# Altium footprint library Control_Board_Model_C201.PcbLib: 94 footprints (part 4 of 6)
Each footprint in its own frame and in the unit in brackets; x right, y up, seen from the top. Pads: shape width x height; smd on the part's side, far side on the other; paste and mask are expansions set on the pad; w line width, h text height; cw(c..) or ccw(c..) is an arc to the next point about the centre after c.
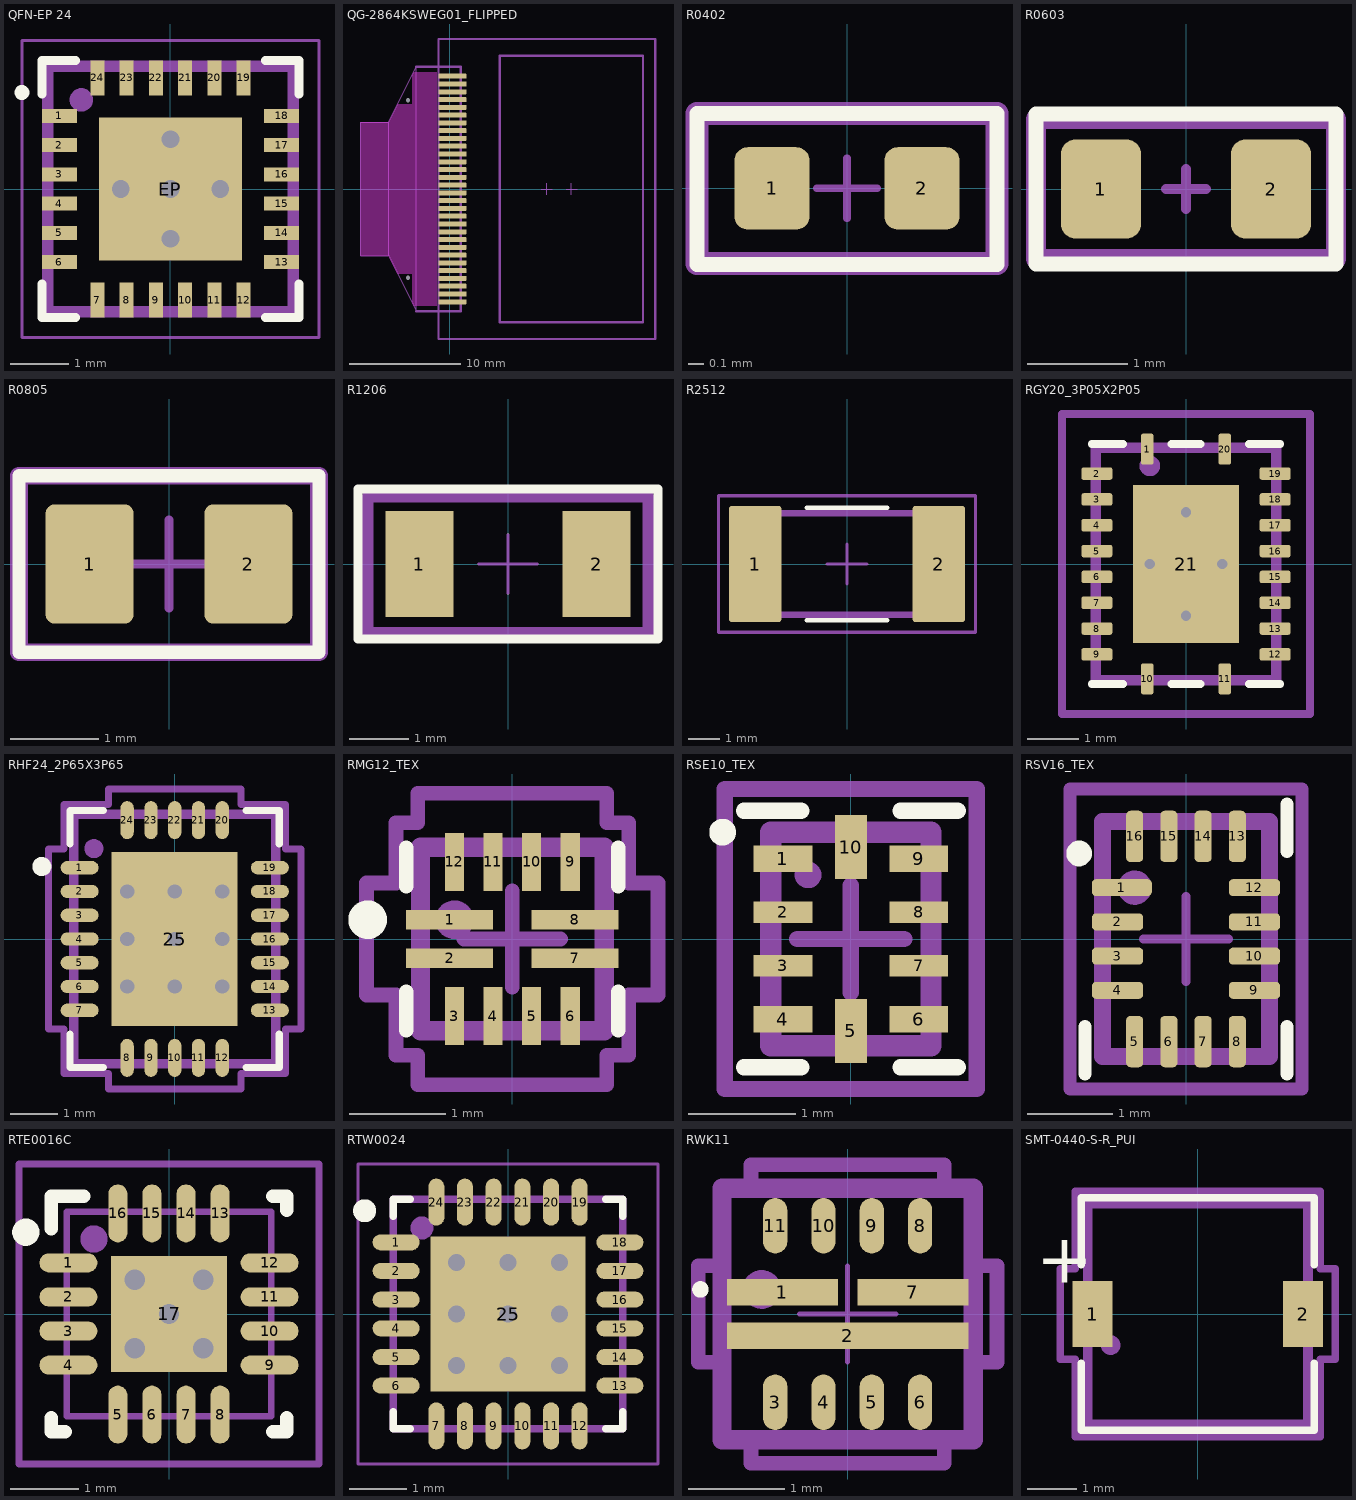
[diagram p3: the footprints below, top view; thin cyan lines are the x and y axes]

## QFN-EP 24 [mm]
height 0.8
pads (25):
  rect 0.6x0.24 smd: 1(-1.9,1.25) 2(-1.9,0.75) 3(-1.9,0.25) 4(-1.9,-0.25) 5(-1.9,-0.75) 6(-1.9,-1.25) 13(1.9,-1.25) 14(1.9,-0.75) 15(1.9,-0.25) 16(1.9,0.25) 17(1.9,0.75) 18(1.9,1.25)
  rect 0.24x0.6 smd: 7(-1.25,-1.9) 8(-0.75,-1.9) 9(-0.25,-1.9) 10(0.25,-1.9) 11(0.75,-1.9) 12(1.25,-1.9) 19(1.25,1.9) 20(0.75,1.9) 21(0.25,1.9) 22(-0.25,1.9) 23(-0.75,1.9) 24(-1.25,1.9)
  rect 2.45x2.45 smd paste-10: EP(0,0)
via 0,0 diameter 0.605 hole 0.3
via 0,0.85 diameter 0.605 hole 0.3
via 0,-0.85 diameter 0.605 hole 0.3
via -0.85,0 diameter 0.605 hole 0.3
via 0.85,0 diameter 0.605 hole 0.3
Top Overlay:
  circle w0.152: c-2.54,1.651 r0.051
  lines w0.152: -2.2,-1.625 -2.2,-2.2 -1.625,-2.2 ; -2.2,1.625 -2.2,2.2 -1.625,2.2 ; 1.625,-2.2 2.2,-2.2 2.2,-1.625 ; 1.625,2.2 2.2,2.2 2.2,1.625
Top Paste:
  rectangle: 0.1,0.1 1,1
  rectangle: -1,0.1 -0.1,1
  rectangle: -1,-1 -0.1,-0.1
  rectangle: 0.1,-1 1,-0.1
Mechanical 14:
  circle w0.2: c-1.524,1.524 r0.1
  lines w0.2: -2.1,-2.1 2.1,-2.1 2.1,2.1 -2.1,2.1 -2.1,-2.1
  text "'.Designator'" at -0.762,-0.254 h0.5
Mechanical 15:
  lines w0.05: -0.5,0 0.5,0 ; 0,-0.5 0,0.5 ; -2.54,-2.54 -2.54,2.54 2.54,2.54 2.54,-2.54 -2.54,-2.54
3D body "WQFN-24.STEP": height 0.8, standoff 0, extent -2.075,-2.075 2.075,2.075

## QG-2864KSWEG01_FLIPPED [mm] "Folding Type OLED Display Module"
pads (32):
  round 0.3 hole 0.4 unplated mask+0: 0(-3.75,-8) 0(-3.75,8)
  rrect20% 2.5x0.45 smd mask+0.05: 1(0.25,10.15) 2(0.25,9.45) 3(0.25,8.75) 4(0.25,8.05) 5(0.25,7.35) 6(0.25,6.65) 7(0.25,5.95) 8(0.25,5.25) 9(0.25,4.55) 10(0.25,3.85) 11(0.25,3.15) 12(0.25,2.45) 13(0.25,1.75) 14(0.25,1.05) 15(0.25,0.35) 16(0.25,-0.35) 17(0.25,-1.05) 18(0.25,-1.75) 19(0.25,-2.45) 20(0.25,-3.15) 21(0.25,-3.85) 22(0.25,-4.55) 23(0.25,-5.25) 24(0.25,-5.95) 25(0.25,-6.65) 26(0.25,-7.35) 27(0.25,-8.05) 28(0.25,-8.75) 29(0.25,-9.45) 30(0.25,-10.15)
Top Layer keep-out:
  region: -2,10.5 -1.168,10.5 -1.168,-10.5 -2,-10.5
  region: -8,6 -5.5,6 -4.675,7.62 -3.378,7.62 -3.378,10.211 -3.25,10.5 -2,10.5 -2,-10.5 -3.25,-10.5 -3.378,-10.216 -3.378,-7.62 -4.699,-7.62 -5.5,-6 -8,-6
Mechanical 14:
  lines w0.1: 8.25,0 9.25,0 ; 8.75,-0.5 8.75,0.5 ; 10.5,0 11.5,0 ; 10.95,-0.5 10.95,0.5 ; -5.5,-6 -8,-6 -8,6 -5.5,6 ; -5.5,-6 -3,-11 -3,11 -5.5,6 ; -5.5,-6 -5.5,6
  lines w0.2: -3,-11 1,-11 1,11 -3,11 ; -1,-13.5 -1,13.5 18.5,13.5 18.5,-13.5 -1,-13.5 ; 4.5,-12 17.4,-12 17.4,12 4.5,12 4.5,-12
  text "30" at 0.5,-10.7 h1.02
  text "1" at 0.5,10 h1.02
  text "'.Designator'" at 0.2,-0.8 h0.5
3D body: height 7.4, standoff 6, extent -1,-13.5 18.5,13.5
3D body: height 7.47, standoff 7.4, extent 4.5,-12 17.4,12

## R0402 [mm]
pads (2):
  rrect35% 0.5x0.55 smd: 1(-0.5,0) 2(0.5,0)
Top Overlay:
  lines w0.1: -1,-0.508 1,-0.508 1,0.5 -1,0.5 -1,-0.508
Mechanical 14:
  lines w0.152: -1,-0.5 -1,0.5 1,0.5 1,-0.5 -1,-0.5
  text ".Designator" at -0.8,-0.2 h0.5
Mechanical 15:
  lines w0.05: -1,-0.5 1,-0.5 1,0.5 -1,0.5 -1,-0.5
  lines w0.051: -0.2,0 0.2,0 ; 0,-0.2 0,0.2
3D body "RC0402N.step": height 0.71, standoff 0, extent -0.533,-0.254 0.533,0.254

## R0603 [mm]
pads (2):
  rrect35% 0.8x0.991 smd: 1(-0.85,0) 2(0.85,0)
Top Overlay:
  lines w0.152: -1.5,-0.75 1.5,-0.75 1.5,0.75 -1.5,0.75 -1.5,-0.75
Mechanical 14:
  lines w0.2: -1.5,-0.7 -1.5,0.7 1.5,0.7 1.5,-0.7 -1.5,-0.7
  text ".Designator" at -1.3,-0.2 h0.5
Mechanical 15:
  lines w0.1: -0.2,0 0.2,0 ; 0,-0.2 0,0.2 ; -1.5,-0.75 1.5,-0.75 1.5,0.75 -1.5,0.75 -1.5,-0.75
3D body "RC0603N.step": height 0.71, standoff 0, extent -0.8,-0.406 0.8,0.406

## R0805 [mm]
pads (2):
  rrect20% 1x1.35 smd: 1(-0.9,0) 2(0.9,0)
Top Overlay:
  lines w0.152: -1.7,-1 -1.7,1 1.7,1 1.7,-1 -1.7,-1
Mechanical 14:
  lines w0.2: -1.7,-1 1.7,-1 1.7,1 -1.7,1 -1.7,-1
  text ".Designator" at -1,-0.2 h0.5
Mechanical 15:
  lines w0.1: -0.5,0 0.5,0 ; 0,-0.5 0,0.5 ; -1.65,-0.95 1.65,-0.95 1.65,0.95 -1.65,0.95 -1.65,-0.95
3D body "RESC2012X06N.step": height 0.6, standoff 0, extent -1.05,-0.675 1.05,0.675

## R1206 [mm]
height 1.68
pads (2):
  rect 1.15x1.8 smd: 1(-1.5,0) 2(1.5,0)
Top Overlay:
  lines w0.152: -2.54,-1.27 -2.54,1.27 2.54,1.27 2.54,-1.27 -2.54,-1.27
Mechanical 14:
  lines w0.2: -2.375,-1.168 -2.375,1.143 2.375,1.143 2.375,-1.168 -2.375,-1.168
  text ".Designator" at -0.635,-0.254 h0.5
Mechanical 15:
  lines w0.05: -0.5,0 0.5,0 ; 0,-0.5 0,0.5 ; -2.35,-1.15 2.35,-1.15 2.35,1.15 -2.35,1.15 -2.35,-1.15
3D body "RE1206FRE071ML.STEP": height 0.65, standoff 0, extent -1.55,-0.8 1.55,0.8

## R2512 [mm] "RES 2512"
height 0.635
pads (2):
  rrect10% 1.65x3.68 smd: 1(-2.9,0) 2(2.9,0)
Top Overlay:
  lines w0.152: -1.27,-1.778 1.27,-1.778 ; -1.27,1.778 1.27,1.778
Mechanical 14:
  lines w0.2: -3.15,-1.6 3.15,-1.6 3.15,1.6 -3.15,1.6 -3.15,-1.6
  text "'.Designator'" at -1,-0.2 h0.5
Mechanical 15:
  lines w0.1: -0.635,0 0.635,0 ; 0,-0.635 0,0.635 ; -4.064,-2.159 -4.064,2.159 4.064,2.159 4.064,-2.159 -4.064,-2.159
3D body "RC2512N.step": height 0.71, standoff 0, extent -3.15,-1.6 3.15,1.6

## RGY20_3P05X2P05 [mm]
pads (21):
  rrect35% 0.24x0.6 smd mask+0.07: 1(-0.75,2.225) 10(-0.75,-2.225) 11(0.75,-2.225) 20(0.75,2.225)
  rrect35% 0.6x0.24 smd mask+0.07: 2(-1.725,1.75) 3(-1.725,1.25) 4(-1.725,0.75) 5(-1.725,0.25) 6(-1.725,-0.25) 7(-1.725,-0.75) 8(-1.725,-1.25) 9(-1.725,-1.75) 12(1.725,-1.75) 13(1.725,-1.25) 14(1.725,-0.75) 15(1.725,-0.25) 16(1.725,0.25) 17(1.725,0.75) 18(1.725,1.25) 19(1.725,1.75)
  rect 2.05x3.05 smd paste-1.512 mask-1.511: 21(0,0)
via 0,1 diameter 0.55 hole 0.2
via 0.7,0 diameter 0.55 hole 0.2
via 0,-1 diameter 0.55 hole 0.2
via -0.7,0 diameter 0.55 hole 0.2
Top Layer:
  region: 0,-1.525
  region: 0,1.525
Top Overlay:
  lines w0.152: -1.825,-2.325 -1.223,-2.325 ; -1.825,2.325 -1.223,2.325 ; -0.277,-2.325 0.277,-2.325 ; -0.277,2.325 0.277,2.325 ; 1.223,-2.325 1.825,-2.325 ; 1.223,2.325 1.825,2.325
  text "." at -1.27,2.667 h0.5
Top Paste:
  region: 1,1.5 0.1,1.5 0.1,0.2 1,0.2
  rectangle: -1,-1.5 -0.1,-0.2
  region: 1,-0.2 0.1,-0.2 0.1,-1.5 1,-1.5
  rectangle: -1,0.2 -0.1,1.5
Mechanical 14:
  circle w0.2: c-0.7,1.9 r0.1
  lines w0.2: -1.75,-2.25 -1.75,2.25 1.75,2.25 1.75,-2.25 -1.75,-2.25
  text "'.Designator'" at -0.9,-0.3 h0.5
Mechanical 15:
  lines w0.1: -0.5,0 0.5,0 ; 0,-0.5 0,0.5
  lines w0.152: -2.404,-2.904 2.404,-2.904 2.404,2.904 -2.404,2.904 -2.404,-2.904
3D body "RGY0020A.stp": height 1, standoff 0, extent -1.75,-2.25 1.75,2.25

## RHF24_2P65X3P65 [mm] "Plastic Quad Flatpack No-Lead"
height 1
pads (25):
  rrect100% 0.8x0.28 smd mask+0.05: 1(-2,1.5) 2(-2,1) 3(-2,0.5) 4(-2,0) 5(-2,-0.5) 6(-2,-1) 7(-2,-1.5) 13(2,-1.5) 14(2,-1) 15(2,-0.5) 16(2,0) 17(2,0.5) 18(2,1) 19(2,1.5)
  rrect100% 0.28x0.8 smd mask+0.05: 8(-1,-2.5) 9(-0.5,-2.5) 10(0,-2.5) 11(0.5,-2.5) 12(1,-2.5) 20(1,2.5) 21(0.5,2.5) 22(0,2.5) 23(-0.5,2.5) 24(-1,2.5)
  rect 2.65x3.65 smd paste-2 mask+0: 25(0,0)
via 1,-1 diameter 0.605 hole 0.3
via 1,0 diameter 0.605 hole 0.3
via 1,1 diameter 0.605 hole 0.3
via -1,1 diameter 0.605 hole 0.3
via -1,0 diameter 0.605 hole 0.3
via -1,-1 diameter 0.605 hole 0.3
via 0,-1 diameter 0.605 hole 0.3
via 0,1 diameter 0.605 hole 0.3
via 0,0 diameter 0.605 hole 0.3
Top Overlay:
  circle w0.2: c-2.794,1.524 r0.1
  lines w0.152: -2.2,-2 -2.2,-2.7 -1.5,-2.7 ; -2.2,2 -2.2,2.7 -1.5,2.7 ; 1.5,-2.7 2.2,-2.7 2.2,-2 ; 1.5,2.7 2.2,2.7 2.2,2
Top Paste:
  region: -1.25,-0.15 -1.25,-1.55 -0.15,-1.55 -0.15,-0.15
  region: 1.25,0.15 1.25,1.55 0.15,1.55 0.15,0.15
  region: 0.15,-0.15 0.15,-1.55 1.25,-1.55 1.25,-0.15
  region: -0.15,0.15 -0.15,1.55 -1.25,1.55 -1.25,0.15
Top Solder:
  region: 0.987,-1.889 0.987,1.889 1.389,1.889 1.389,-1.889
  region: 0.587,-1.889 0.587,1.889 0.2,1.889 0.2,-1.889
  region: -0.2,-1.889 -0.2,1.889 -0.587,1.889 -0.587,-1.889
  region: -1.389,-1.889 -1.389,1.889 -0.987,1.889 -0.987,-1.889
  region: -1.389,-1.889 -1.389,-1.381 1.389,-1.381 1.389,-1.889
  region: -1.389,-0.981 -1.389,-0.594 1.389,-0.594 1.389,-0.981
  region: -1.389,-0.194 -1.389,0.194 1.389,0.194 1.389,-0.194
  region: -1.389,0.594 -1.389,0.981 1.389,0.981 1.389,0.594
  region: -1.389,1.381 -1.389,1.889 1.389,1.889 1.389,1.381
Mechanical 14:
  circle w0.2: c-1.7,1.9 r0.1
  lines w0.2: -2.125,-2.625 -2.125,2.625 2.125,2.625 2.125,-2.625 -2.125,-2.625
  text "'.Designator'" at -0.9,-0.3 h0.5
Mechanical 15:
  lines w0.152: -2.654,-1.894 -2.654,1.894 -2.329,1.894 -2.329,2.829 -1.394,2.829 -1.394,3.154 1.394,3.154 1.394,2.829 2.329,2.829 2.329,1.894 2.654,1.894 2.654,-1.894 2.329,-1.894 2.329,-2.829 1.394,-2.829 1.394,-3.154 -1.394,-3.154 -1.394,-2.829 -2.329,-2.829 -2.329,-1.894 -2.654,-1.894
3D body "RHF24_2P65X3P65_TEX.step": height 1, standoff 0, extent -2.126,-2.626 2.126,2.626

## RMG12_TEX [mm]
pads (12):
  rect 0.9x0.2 smd mask+0.05: 1(-0.65,0.2) 2(-0.65,-0.2) 7(0.65,-0.2) 8(0.65,0.2)
  rect 0.2x0.6 smd mask+0.05: 3(-0.6,-0.8) 4(-0.2,-0.8) 5(0.2,-0.8) 6(0.6,-0.8) 9(0.6,0.8) 10(0.2,0.8) 11(-0.2,0.8) 12(-0.6,0.8)
Top Overlay:
  circle w0.2: c-1.5,0.2 r0.1
  lines w0.152: -1.1,-0.945 -1.1,-0.55 ; -1.1,0.55 -1.1,0.945 ; 1.1,-0.945 1.1,-0.55 ; 1.1,0.55 1.1,0.945
Mechanical 14:
  circle w0.2: c-0.6,0.2 r0.1
  lines w0.2: -0.953,-0.953 0.953,-0.953 0.953,0.953 -0.953,0.953 -0.953,-0.953
  text "'.Designator'" at -0.8,-0.3 h0.5
Mechanical 15:
  lines w0.152: -0.5,0 0.5,0 ; 0,-0.5 0,0.5 ; -1.511,-0.581 -1.206,-0.581 -1.206,-1.206 -0.981,-1.206 -0.981,-1.511 0.981,-1.511 0.981,-1.206 1.206,-1.206 1.206,-0.581 1.511,-0.581 1.511,0.581 1.206,0.581 1.206,1.206 0.981,1.206 0.981,1.511 -0.981,1.511 -0.981,1.206 -1.206,1.206 -1.206,0.581 -1.511,0.581 -1.511,-0.581
3D body "RMG12_TEX.step": height 0.81, standoff 0, extent -0.952,-0.952 0.952,0.952

## RSE10_TEX [mm]
pads (10):
  rect 0.55x0.25 smd paste-0.15 mask+0.05: 1(-0.635,0.75) 4(-0.635,-0.75) 6(0.635,-0.75) 9(0.635,0.75)
  rect 0.55x0.2 smd mask+0.05: 2(-0.635,0.25) 3(-0.635,-0.25) 7(0.635,-0.25) 8(0.635,0.25)
  rect 0.3x0.6 smd mask+0.05: 5(0,-0.86) 10(0,0.86)
Top Overlay:
  circle w0.15: c-1.2,1 r0.05
  lines w0.152: -1,-1.2 -0.465,-1.2 ; -1,1.2 -0.465,1.2 ; 0.465,-1.2 1,-1.2 ; 0.465,1.2 1,1.2
Mechanical 14:
  circle w0.15: c-0.4,0.6 r0.05
  lines w0.2: -0.75,-1 -0.75,1 0.75,1 0.75,-1 -0.75,-1
  text "'.Designator'" at -0.4,-0.3 h0.5
Mechanical 15:
  lines w0.152: -0.5,0 0.5,0 ; 0,-0.5 0,0.5 ; -1.179,-1.404 1.179,-1.404 1.179,1.404 -1.179,1.404 -1.179,-1.404
3D body "RSE0010A.stp": height 0.6, standoff 0, extent -0.75,-1 0.75,1

## RSV16_TEX [mm]
pads (16):
  rrect50% 0.7x0.2 smd paste+0 mask+0.05: 1(-0.75,0.6)
  rrect50% 0.6x0.2 smd paste+0 mask+0.05: 2(-0.8,0.2) 3(-0.8,-0.2) 4(-0.8,-0.6) 9(0.8,-0.6) 10(0.8,-0.2) 11(0.8,0.2) 12(0.8,0.6)
  rrect50% 0.2x0.6 smd paste+0 mask+0.05: 5(-0.6,-1.2) 6(-0.2,-1.2) 7(0.2,-1.2) 8(0.6,-1.2) 13(0.6,1.2) 14(0.2,1.2) 15(-0.2,1.2) 16(-0.6,1.2)
Top Overlay:
  circle w0.2: c-1.25,1 r0.05
  lines w0.152: -1.179,-1.579 -1.179,-1.026 ; 1.179,-1.579 1.179,-1.026 ; 1.179,1.026 1.179,1.579
Mechanical 14:
  circle w0.2: c-0.6,0.6 r0.1
  lines w0.2: -0.975,-1.375 0.975,-1.375 0.975,1.375 -0.975,1.375 -0.975,-1.375
  text "'.Designator'" at -0.6,-0.3 h0.5
Mechanical 15:
  lines w0.1: -0.5,0 0.5,0 ; 0,-0.5 0,0.5
  lines w0.152: -1.354,-1.754 -1.354,1.754 1.354,1.754 1.354,-1.754 -1.354,-1.754
3D body "RSV0016A.step": height 0.55, standoff 0, extent -0.975,-1.375 0.975,1.375

## RTE0016C [mm]
pads (17):
  rrect100% 0.85x0.28 smd paste-0.025 mask+0.05: 1(-1.475,0.75) 2(-1.475,0.25) 3(-1.475,-0.25) 4(-1.475,-0.75) 9(1.475,-0.75) 10(1.475,-0.25) 11(1.475,0.25) 12(1.475,0.75)
  rrect100% 0.28x0.85 smd paste-0.025 mask+0.05: 5(-0.75,-1.475) 6(-0.25,-1.475) 7(0.25,-1.475) 8(0.75,-1.475) 13(0.75,1.475) 14(0.25,1.475) 15(-0.25,1.475) 16(-0.75,1.475)
  rect 1.7x1.7 smd paste-2 mask+0.05: 17(0,0)
via 0,0 diameter 0.605 hole 0.3
via -0.5,0.5 diameter 0.605 hole 0.3
via 0.5,0.5 diameter 0.605 hole 0.3
via -0.5,-0.5 diameter 0.605 hole 0.3
via 0.5,-0.5 diameter 0.605 hole 0.3
Top Overlay:
  circle w0.2: c-2.1,1.2 r0.1
  lines w0.2: -1.725,-1.525 -1.725,-1.725 -1.525,-1.725 ; -1.725,1.25 -1.725,1.725 -1.25,1.725 ; 1.525,-1.725 1.725,-1.725 1.725,-1.525 ; 1.525,1.725 1.725,1.725 1.725,1.525
Top Paste:
  rectangle: -0.8,0.1 -0.1,0.8
  region: -0.1,-0.8 -0.1,-0.1 -0.8,-0.1 -0.8,-0.8
  region: 0.8,-0.1 0.1,-0.1 0.1,-0.8 0.8,-0.8
  region: 0.1,0.8 0.1,0.1 0.8,0.1 0.8,0.8
Mechanical 14:
  circle w0.2: c-1.1,1.1 r0.1
  lines w0.1: -1.5,-1.5 -1.5,1.5 1.5,1.5 1.5,-1.5 -1.5,-1.5
  text "'.Designator'" at -0.6,-0.2 h0.5
Mechanical 15:
  lines w0.1: -0.381,0 0.381,0 ; 0,-0.381 0,0.381 ; -2.2,-2.2 2.2,-2.2 2.2,2.2 -2.2,2.2 -2.2,-2.2
3D body "RTE0016C.stp": height 0.8, standoff 0, extent -1.5,-1.5 1.5,1.5

## RTW0024 [mm] "WQFN24 Plastic Quad Flatpack No-Lead"
height 0.8
pads (25):
  rrect100% 0.82x0.28 smd paste-0.025 mask+0.05: 1(-1.95,1.25) 2(-1.95,0.75) 3(-1.95,0.25) 4(-1.95,-0.25) 5(-1.95,-0.75) 6(-1.95,-1.25) 13(1.95,-1.25) 14(1.95,-0.75) 15(1.95,-0.25) 16(1.95,0.25) 17(1.95,0.75) 18(1.95,1.25)
  rrect100% 0.28x0.82 smd paste-0.025 mask+0.05: 7(-1.25,-1.95) 8(-0.75,-1.95) 9(-0.25,-1.95) 10(0.25,-1.95) 11(0.75,-1.95) 12(1.25,-1.95) 19(1.25,1.95) 20(0.75,1.95) 21(0.25,1.95) 22(-0.25,1.95) 23(-0.75,1.95) 24(-1.25,1.95)
  rect 2.7x2.7 smd paste-5 mask+0.05: 25(0,0)
via 0,0 diameter 0.605 hole 0.3
via -0.9,0 diameter 0.605 hole 0.3
via 0.9,0 diameter 0.605 hole 0.3
via 0.9,0.9 diameter 0.605 hole 0.3
via 0,0.9 diameter 0.605 hole 0.3
via -0.9,0.9 diameter 0.605 hole 0.3
via -0.9,-0.9 diameter 0.605 hole 0.3
via 0,-0.9 diameter 0.605 hole 0.3
via 0.9,-0.9 diameter 0.605 hole 0.3
Top Overlay:
  circle w0.2: c-2.5,1.8 r0.1
  lines w0.127: -2,-1.705 -2,-2 -1.705,-2 ; -2,1.705 -2,2 -1.705,2 ; 1.705,-2 2,-2 2,-1.705 ; 1.705,2 2,2 2,1.705
Top Paste:
  region: 0.15,1.25 0.15,0.15 1.25,0.15 1.25,1.25
  region: 1.25,-0.15 0.15,-0.15 0.15,-1.25 1.25,-1.25
  region: -0.15,-1.25 -0.15,-0.15 -1.25,-0.15 -1.25,-1.25
  rectangle: -1.25,0.15 -0.15,1.25
Mechanical 14:
  circle w0.2: c-1.5,1.5 r0.1
  lines w0.127: -2,-2 -2,2 ; -2,-2 2,-2 ; -2,-2 -2,2 ; -2,-2 2,-2 ; -2,2 2,2 ; -2,2 2,2 ; 2,-2 2,2 ; 2,-2 2,2
  text "'.Designator'" at -0.9,-0.2 h0.5
Mechanical 15:
  lines w0.05: -2.615,-2.615 -2.615,2.615 2.615,2.615 2.615,-2.615 -2.615,-2.615
  lines w0.1: -0.5,0 0.5,0 ; 0,-0.5 0,0.5
3D body "BQ25611DRTWT.STEP": height 0.8, standoff 0, extent -2,-2 2,2

## RWK11 [mm]
pads (11):
  rect 1.15x0.275 smd paste-1 mask-0.038: 1(-0.675,0.225) 7(0.675,0.225)
  rect 2.5x0.275 smd paste-1 mask-0.038: 2(0,-0.225)
  rrect100% 0.25x0.575 smd paste+0 mask+0.05: 3(-0.75,-0.913) 4(-0.25,-0.913) 5(0.25,-0.913) 6(0.75,-0.913) 8(0.75,0.913) 9(0.25,0.913) 10(-0.25,0.913) 11(-0.75,0.913)
Top Overlay:
  circle w0.1: c-1.524,0.254 r0.035
Top Paste:
  rectangle: 0.551,-0.325 1.199,-0.125
  rectangle: -0.322,-0.325 0.326,-0.125
  rectangle: -1.195,-0.325 -0.547,-0.125
  rectangle: 0.137,0.125 0.562,0.325
  rectangle: 0.787,0.125 1.212,0.325
  rectangle: -0.563,0.125 -0.138,0.325
  rectangle: -1.213,0.125 -0.788,0.325
Mechanical 14:
  circle w0.2: c-0.889,0.254 r0.1
  lines w0.2: -1.3,-1.3 -1.3,1.3 1.3,1.3 1.3,-1.3 -1.3,-1.3
  text ".Designator" at -0.9,-0.2 h0.5
Mechanical 15:
  lines w0.05: -0.5,0 0.5,0 ; 0,-0.5 0,0.5
  lines w0.152: -1.546,-0.5 -1.546,0.5 -1.308,0.5 -1.308,1.308 -1,1.308 -1,1.546 1,1.546 1,1.308 1.308,1.308 1.308,0.5 1.546,0.5 1.546,-0.5 1.308,-0.5 1.308,-1.308 1,-1.308 1,-1.546 -1,-1.546 -1,-1.308 -1.308,-1.308 -1.308,-0.5 -1.546,-0.5
3D body "RWK11.step": height 0.99, standoff 0, extent -1.206,-1.054 1.206,1.054

## SMT-0440-S-R_PUI [mil] "Buzzers Transducer, Externally Driven 90mA 4kHz 70dB @ 3V, 10cm Surface Mount Solder Pads"
height 78.74
pads (2):
  rect 32x53 smd: 1(-84.5,0) 2(84.5,0)
Top Overlay:
  lines w6: -93.5,-39.6 -93.5,-93.5 93.5,-93.5 93.5,-39.6 ; -93.5,39.6 -93.5,93.5 93.5,93.5 93.5,39.6
  text "+" at -130,25 h40
Mechanical 14:
  circle w7.87: c-70,-25 r3.94
  lines w7.87: -88.5,-88.5 88.5,-88.5 88.5,88.5 -88.5,88.5 -88.5,-88.5
  text "'.Designator'" at -40,-10 h19.68
  text "+" at -120,-10 h19.68
Mechanical 15:
  lines w6: -110.5,-36.5 -110.5,36.5 -98.5,36.5 -98.5,98.5 98.5,98.5 98.5,36.5 110.5,36.5 110.5,-36.5 98.5,-36.5 98.5,-98.5 -98.5,-98.5 -98.5,-36.5 -110.5,-36.5
3D body "SMT-0440-S-R_PUI.step": height 98.11, standoff 0, extent -88.5,-88.5 88.5,88.5